# Altium schematic symbol library LM337.SchLib: 1 symbol
Pins are listed as number, name and electrical type; pins without a type are passive.

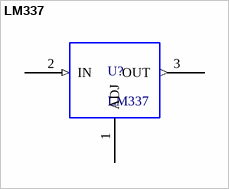
[diagram p0: symbol LM337]

## LM337
designator U?
pins: 1 ADJ (power), 2 IN (in), 3 OUT (out)